# Altium footprint library PcbLib1.PcbLib: 1 footprints
Each footprint in its own frame and in the unit in brackets; x right, y up, seen from the top. Pads: shape width x height; smd on the part's side, far side on the other; paste and mask are expansions set on the pad; w line width, h text height; cw(c..) or ccw(c..) is an arc to the next point about the centre after c.
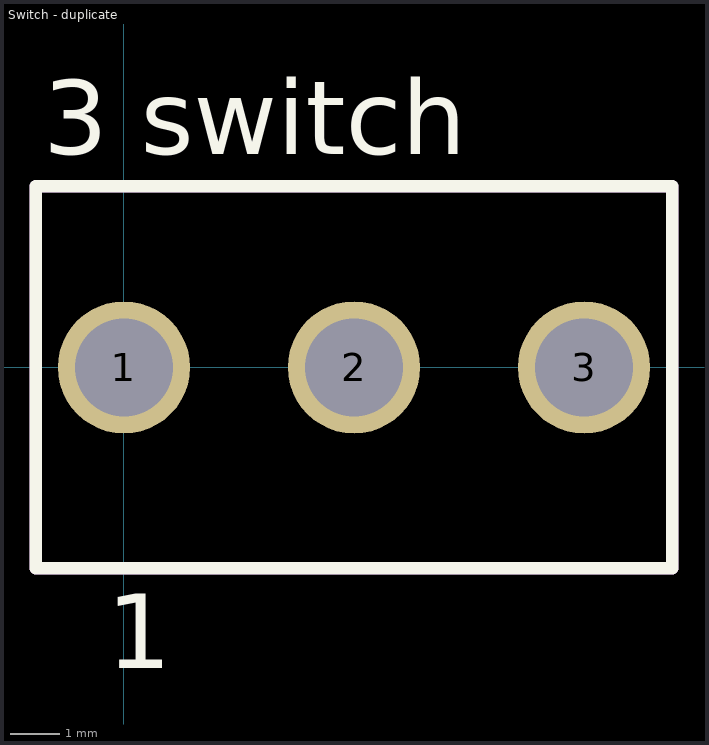
[diagram p0: the footprint, top view; thin cyan lines are the x and y axes]

## Switch - duplicate [mm]
pads (3):
  round 2.7 hole 2: 1(0,0) 2(4.7,0) 3(9.4,0)
Top Overlay:
  lines w0.254: -1.8,-4.1 11.2,-4.1 11.2,3.7 -1.8,3.7 -1.8,-4.1
  text "1" at -0.346,-6.146 h1.52
  text "3 switch" at -1.646,4.354 h1.52
Top Assembly:
  lines w0.254: -1.8,-4.1 11.2,-4.1 11.2,3.7 -1.8,3.7 -1.8,-4.1
3D body "STP_472123020311 (rev1).stp": height 24.1, standoff -5.9, extent -1.65,-3.3 11.05,3.3